# Altium schematic symbol library SCH - POWER - SWITCH - DIODES AP2142ASG-13.SCHLIB: 1 symbol
Pins are listed as number, name and electrical type; pins without a type are passive.

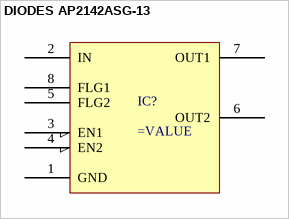
[diagram p0: symbol DIODES AP2142ASG-13]

## DIODES AP2142ASG-13
designator IC?
pins: 1 GND, 2 IN, 3 EN1, 4 EN2, 5 FLG2, 6 OUT2, 7 OUT1, 8 FLG1